# EAGLE library part WBL-4U (library switch-e-switch)
4PDT PUSHBUTTON SWITCH
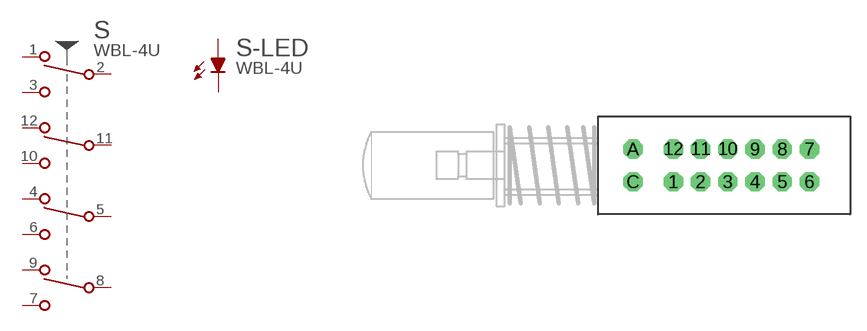
[diagram p4: symbol with the pads of WBL-4U; footprint WBL-4U]

Designator prefix S; gates -LED=LED P=4PDT-PV

## WBL-4U  [WBL-4U]
1  P:A-NC  pas
2  P:A-COM  pas
3  P:A-NO  pas
4  P:C-NC  pas
5  P:C-COM  pas
6  P:C-NO  pas
7  P:D-NO  pas
8  P:D-COM  pas
9  P:D-NC  pas
10  P:B-NO  pas
11  P:B-COM  pas
12  P:B-NC  pas
A  -LED:A  pas
C  -LED:C  pas

## Footprint WBL-4U (pad centres in mm)
PUSH BUTTON SWITCH 4PDT w/LED
drill 0.813 pad 1.778 octagon: 1 -2.5,-1.5; 2 0,-1.5; 3 2.5,-1.5; 4 5,-1.5; 5 7.5,-1.5; 6 10,-1.5; 7 10,1.5; 8 7.5,1.5; 9 5,1.5; 10 2.5,1.5; 11 0,1.5; 12 -2.5,1.5; A -6.2,1.5; C -6.2,-1.5